# Altium integrated library ADS131M03IRUKR.IntLib: 1 symbol
Pins are listed as number, name and electrical type; pins without a type are passive.

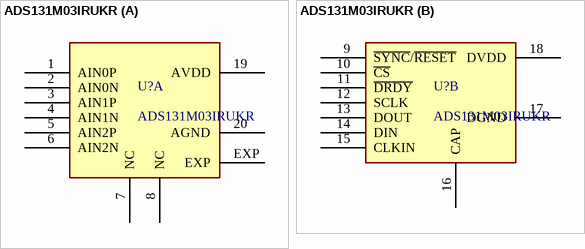
[diagram p0: symbol ADS131M03IRUKR]

## ADS131M03IRUKR
designator U?
3-Channel, Simultaneously-Sampling, 24-Bit, Delta-Sigma ADC
footprint 20-WQFN
part A pins: 1 AIN0P, 2 AIN0N, 3 AIN1P, 4 AIN1N, 5 AIN2P, 6 AIN2N, 7 NC, 8 NC, 19 AVDD, 20 AGND, EXP
part B pins: 9 ~{SYNC}/~{RESET}, 10 ~{CS}, 11 ~{DRDY}, 12 SCLK, 13 DOUT, 14 DIN, 15 CLKIN, 16 CAP, 17 DGND, 18 DVDD